# Altium footprint library SPT3G_LCBoard.PcbLib: 20 footprints (part 2 of 2)
Each footprint in its own frame and in the unit in brackets; x right, y up, seen from the top. Pads: shape width x height; smd on the part's side, far side on the other; paste and mask are expansions set on the pad; w line width, h text height; cw(c..) or ccw(c..) is an arc to the next point about the centre after c.
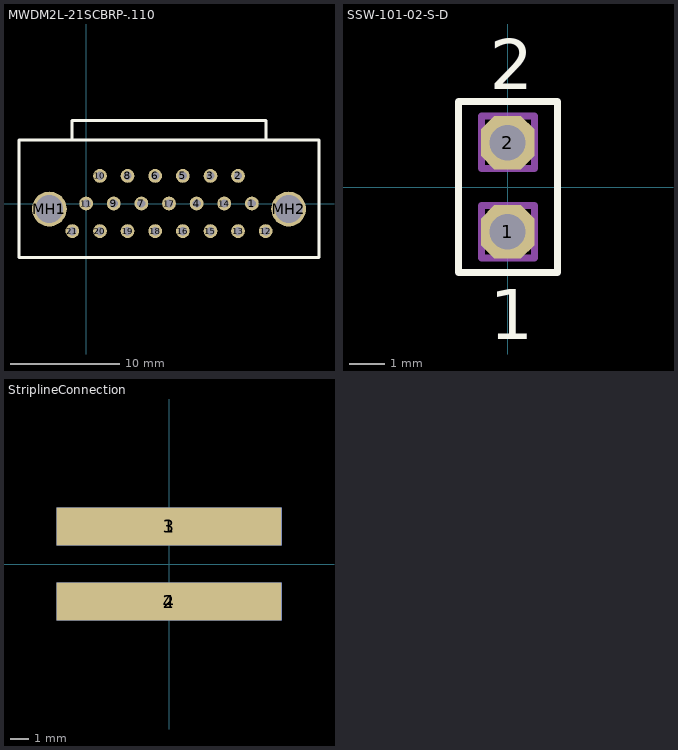
[diagram p1: the footprints below, top view; thin cyan lines are the x and y axes]

## MWDM2L-21SCBRP-.110 [mil] "MWDM2L-21SCBRP-.110"
pads (23):
  round 50 hole 30: 1(600,0) 2(550,100) 3(450,100) 4(400,0) 5(350,100) 6(250,100) 7(200,0) 8(150,100) 9(100,0) 10(50,100) 11(0,0) 12(650,-100) 13(550,-100) 14(500,0) 15(450,-100) 16(350,-100) 17(300,0) 18(250,-100) 19(150,-100) 20(50,-100) 21(-50,-100)
  round 125.98 hole 100: MH1(-133,-20) MH2(733,-20)
Top Overlay:
  lines w10: -51,231 -51,300 651,300 651,231 ; -243,-195 -243,230 843,230 843,-195 -243,-195
3D body: height 309.92, standoff -123.62, extent -242.35,-175.76 842.77,422.27

## PCBComponent_1 [mm]

## SSW-101-02-S-D [mil] "SSW-101-02-S-D"
pads (2):
  oct 60x60 hole 40: 1(0,-50) 2(0,50)
Top Overlay:
  lines w8: -55.08,-95.47 56,-95.47 56,96 -55.08,96 -55.08,-95.47
  text "1" at -20,-170 h56.1
  text "2" at -20,110 h56.1
Mechanical 16:
  lines w8: -29.33,-79.33 30,-79.33 30,-20.28 -29.33,-20.28 -29.33,-79.33 ; -29.33,21 30,21 30,80 -29.33,80 -29.33,21

## StriplineConnection [mm] "Attachment for stripline"
pads (4):
  rect 12x2 smd: 1(0,2) 2(0,-2)
  rect 12x2 smd far side: 3(0,2) 4(0,-2)